# Altium schematic symbol library NodoWifi_R00.SchLib: 22 symbols
Pins are listed as number, name and electrical type; pins without a type are passive.

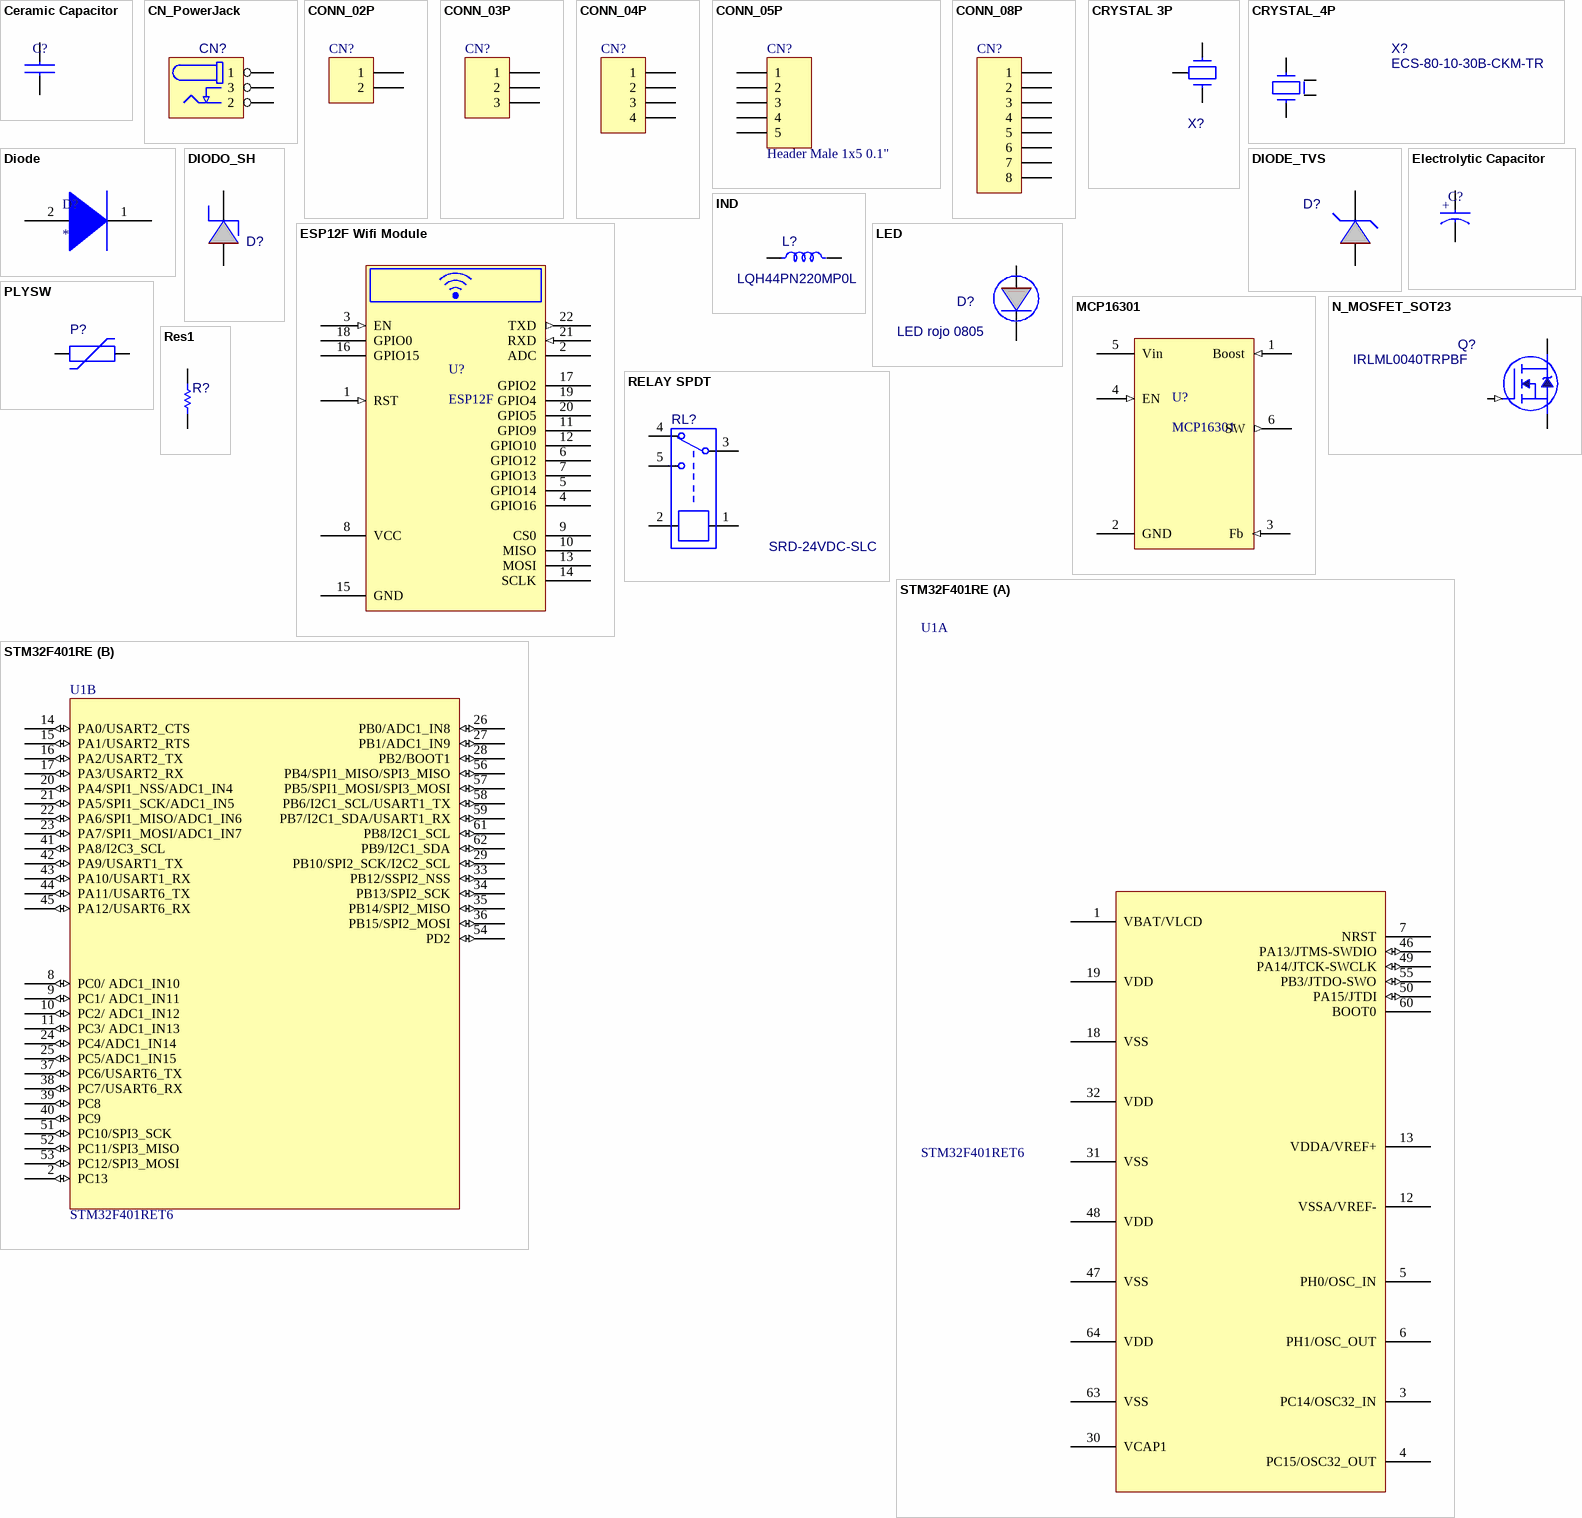
[diagram p0: symbols Ceramic Capacitor to STM32F401RE]

## Ceramic Capacitor
designator C?
Ceramic Capacitor
pins: 1, 2

## CN_PowerJack
designator CN?
Barrel Power Connector
pins: 1, 2, 3

## CONN_02P
designator CN?
Connector Generic 2 Vias
pins: 1, 2

## CONN_03P
designator CN?
Connector Generic 3 Vias
pins: 1, 2, 3

## CONN_04P
designator CN?
Connector Generic 4 Vias
pins: 1, 2, 3, 4

## CONN_05P
designator CN?, comment Header Male 1x5 0.1"
Connector Generic 5 Vias
pins: 1, 2, 3, 4, 5

## CONN_08P
designator CN?
Connector Generic 8 Vias
pins: 1, 2, 3, 4, 5, 6, 7, 8

## CRYSTAL 3P
designator X?
Crystal 2 Vias + GND
pins: 1, 2, 3

## CRYSTAL_4P
designator X?, comment ECS-80-10-30B-CKM-TR
Crystal 4 Vias + GND
pins: 1, 2, 3, 4

## Diode
designator D?
pins: 1, 2

## DIODE_TVS
designator D?
Unidirectional TVS
pins: 1 A, 2 K

## DIODO_SH
designator D?
Diode Shottky
pins: 1 A, 2 K

## Electrolytic Capacitor
designator C?
Electrolytic Capacitor
pins: 1, 2
text: +

## ESP12F Wifi Module
designator U?, comment ESP12F
Wifi Module
pins: 1 RST (in), 2 ADC, 3 EN (in), 4 GPIO16, 5 GPIO14, 6 GPIO12, 7 GPIO13, 8 VCC (power), 9 CS0, 10 MISO, 11 GPIO9, 12 GPIO10, 13 MOSI, 14 SCLK, 15 GND (power), 16 GPIO15, 17 GPIO2, 18 GPIO0, 19 GPIO4, 20 GPIO5, 21 RXD (in), 22 TXD (out)

## IND
designator L?, comment LQH44PN220MP0L
Inductor
pins: 1, 2

## LED
designator D?, comment LED rojo 0805
LED
pins: 1 A, 2 K

## MCP16301
designator U?
Integrated Switch Step-Down
pins: 1 Boost (in), 2 GND (power), 3 Fb (in), 4 EN (in), 5 Vin (power), 6 SW (out)

## N_MOSFET_SOT23
designator Q?, comment IRLML0040TRPBF
Mosfet N-Ch
pins: 1 GATE (in), 2 SOURCE, 3 DRAIN

## PLYSW
designator P?
Polyswitch
pins: 1, 2

## RELAY SPDT
designator RL?, comment SRD-24VDC-SLC
Relay SPDT
pins: 1, 2, 3, 4, 5

## Res1
designator R?
Resistor
pins: 1, 2

## STM32F401RE
designator U1, comment STM32F401RET6
part A pins: 1 VBAT/VLCD, 3 PC14/OSC32_IN, 4 PC15/OSC32_OUT, 5 PH0/OSC_IN, 6 PH1/OSC_OUT, 7 NRST, 12 VSSA/VREF-, 13 VDDA/VREF+, 18 VSS, 19 VDD, 30 VCAP1, 31 VSS, 32 VDD, 46 PA13/JTMS-SWDIO (io), 47 VSS, 48 VDD, 49 PA14/JTCK-SWCLK (io), 50 PA15/JTDI (io), 55 PB3/JTDO-SWO (io), 60 BOOT0, 63 VSS, 64 VDD
part B pins: 2 PC13 (io), 8 PC0/ ADC1_IN10 (io), 9 PC1/ ADC1_IN11 (io), 10 PC2/ ADC1_IN12 (io), 11 PC3/ ADC1_IN13 (io), 14 PA0/USART2_CTS (io), 15 PA1/USART2_RTS (io), 16 PA2/USART2_TX (io), 17 PA3/USART2_RX (io), 20 PA4/SPI1_NSS/ADC1_IN4 (io), 21 PA5/SPI1_SCK/ADC1_IN5 (io), 22 PA6/SPI1_MISO/ADC1_IN6 (io), 23 PA7/SPI1_MOSI/ADC1_IN7 (io), 24 PC4/ADC1_IN14 (io), 25 PC5/ADC1_IN15 (io), 26 PB0/ADC1_IN8 (io), 27 PB1/ADC1_IN9 (io), 28 PB2/BOOT1 (io), 29 PB10/SPI2_SCK/I2C2_SCL (io), 33 PB12/SSPI2_NSS (io), 34 PB13/SPI2_SCK (io), 35 PB14/SPI2_MISO (io), 36 PB15/SPI2_MOSI (io), 37 PC6/USART6_TX (io), 38 PC7/USART6_RX (io), 39 PC8 (io), 40 PC9 (io), 41 PA8/I2C3_SCL (io), 42 PA9/USART1_TX (io), 43 PA10/USART1_RX (io), 44 PA11/USART6_TX (io), 45 PA12/USART6_RX (io), 51 PC10/SPI3_SCK (io), 52 PC11/SPI3_MISO (io), 53 PC12/SPI3_MOSI (io), 54 PD2 (io), 56 PB4/SPI1_MISO/SPI3_MISO (io), 57 PB5/SPI1_MOSI/SPI3_MOSI (io), 58 PB6/I2C1_SCL/USART1_TX (io), 59 PB7/I2C1_SDA/USART1_RX (io), 61 PB8/I2C1_SCL (io), 62 PB9/I2C1_SDA (io)